# Altium footprint library TIP125.PcbLib: 2 footprints
Each footprint in its own frame and in the unit in brackets; x right, y up, seen from the top. Pads: shape width x height; smd on the part's side, far side on the other; paste and mask are expansions set on the pad; w line width, h text height; cw(c..) or ccw(c..) is an arc to the next point about the centre after c.
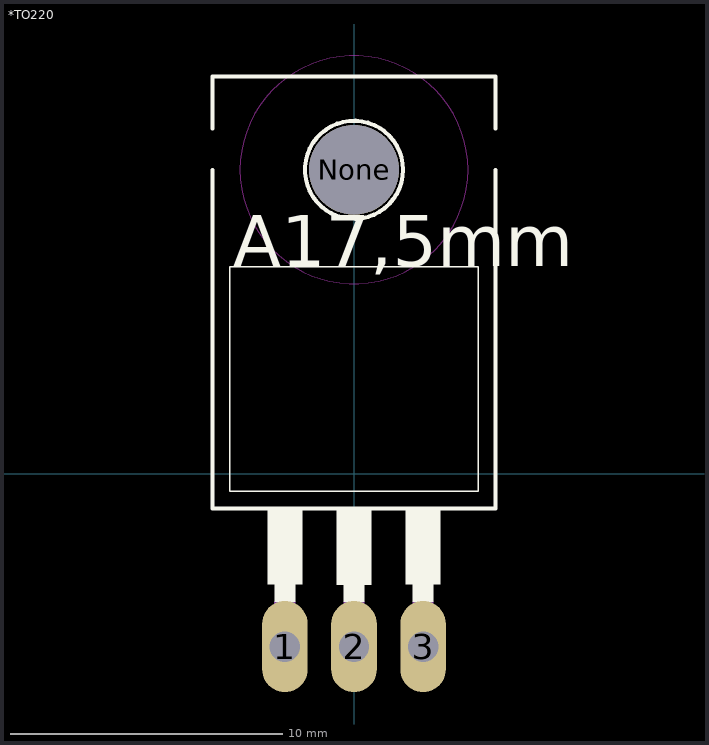
[diagram p0: the footprints below, top view; thin cyan lines are the x and y axes]

## *TO220 [mil]
pads (4):
  oval 66x132 hole 44: 1(-100,-250) 2(0,-250) 3(100,-250)
  round 130 hole 130 unplated: None(0,440)
Top Overlay:
  circle w6: c0,440 r71
  region: 75,-50 125,-50 125,-160.01 75,-160.01
  region: -25.04,-50 25,-50 25,-160.23 -25.04,-160.23
  region: -125.01,-50 -75,-50 -75,-160.01 -125.01,-160.01
  region: -115.01,-160 -85,-160 -85,-185.01 -115.01,-185.01
  region: -15.02,-160 15,-160 15,-185.22 -15.02,-185.22
  region: 85.17,-160 115,-160 115,-185.36 85.17,-185.36
  lines w2: -180,-25 -180,300 180,300 180,-25 -180,-25
  lines w6: -205,440 -205,-50 205,-50 205,440 ; -205,500 -205,575 205,575 205,500
  text "A17,5mm" at -175.02,300.18 h73.82
Keep-Out Layer:
  circle w0: c0,440 r165
  circle w0: c0,440 r165
  circle w0: c0,440 r165
  circle w0: c0,440 r165
  circle w0: c0,440 r165
  circle w0: c0,440 r165
Mechanical 4:
  region: 85.09,-185 115,-185 115,-260.27 85.09,-260.27
  region: -15,-185 15,-185 15,-260.07 -15,-260.07
  region: -115.18,-185 -85,-185 -85,-260.4 -115.18,-260.4
  region: 85.09,-185 115,-185 115,-260.27 85.09,-260.27
  region: -15,-185 15,-185 15,-260.07 -15,-260.07
  region: -115.18,-185 -85,-185 -85,-260.4 -115.18,-260.4
  text "3" at 75,-9.84 h73.82
  text "2" at -25.02,-9.84 h73.82
  text "1" at -125.03,-9.84 h73.82
  text "3" at 75,-9.84 h73.82
  text "2" at -25.02,-9.84 h73.82
  text "1" at -125.03,-9.84 h73.82

## PCBComponent_1 [mil]